# EAGLE library part SIMHOLDER-6PIN (library Connectors)
CONN SIM CARD HINGED TYPE R/A
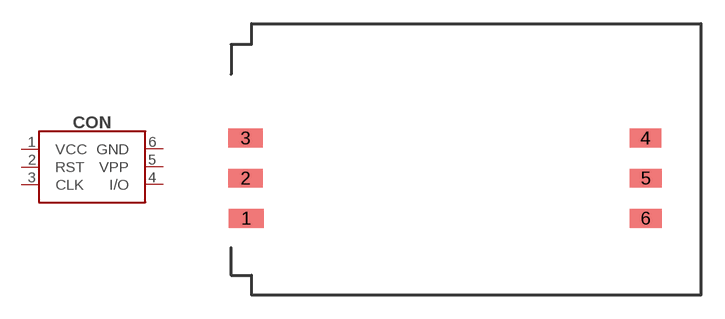
[diagram p1: symbol with the pads of SIM_HOLDER_LOCK; footprint SIM_HOLDER_LOCK]

Designator prefix CON

## SIMHOLDER-6PIN (DIGIKEY#: 609-1401-1-ND; MANF: FCI; MANF#: 7111S2015X02LF)  [SIM_HOLDER_LOCK]
1  VCC
2  RST
3  CLK
4  I/O
5  VPP
6  GND

## Footprint SIM_HOLDER_LOCK (pad centres in mm)
smd 2.2 x 1.2: 1 -13.9,-3.73; 2 -13.94,-1.19; 3 -13.94,1.35
smd 2 x 1.2: 4 11.35,1.35; 5 11.37,-1.19; 6 11.37,-3.73